# Altium integrated library CONREVSMA002-G.IntLib: 1 symbol
Pins are listed as number, name and electrical type; pins without a type are passive.

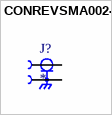
[diagram p0: symbol CONREVSMA002-G]

## CONREVSMA002-G
designator J?
RP-SMA Female Right-Angle Through-Hole Mount Connector, Gold; MF: Linx Technologies; MP: CONREVSMA002-G; SnapEDA_Link: https://www.snapeda.com/parts/CONREVSMA002-G/Linx+Technologies+Inc./view-part/?ref=snap; Package: None; Value: *; Check_prices: https://www.snapeda.com/parts/CONREVSMA002-G/Linx+Technologies+Inc./view-part/?ref=eda
footprint LINX_CONREVSMA002-G
pins: 1, S1 2, S2 2, S3 2, S4 2